# Altium integrated library Linear Technology PMIC-Switching Reg LTC1174-LTC3901.IntLib: 2647 symbols (part 96 of 310)
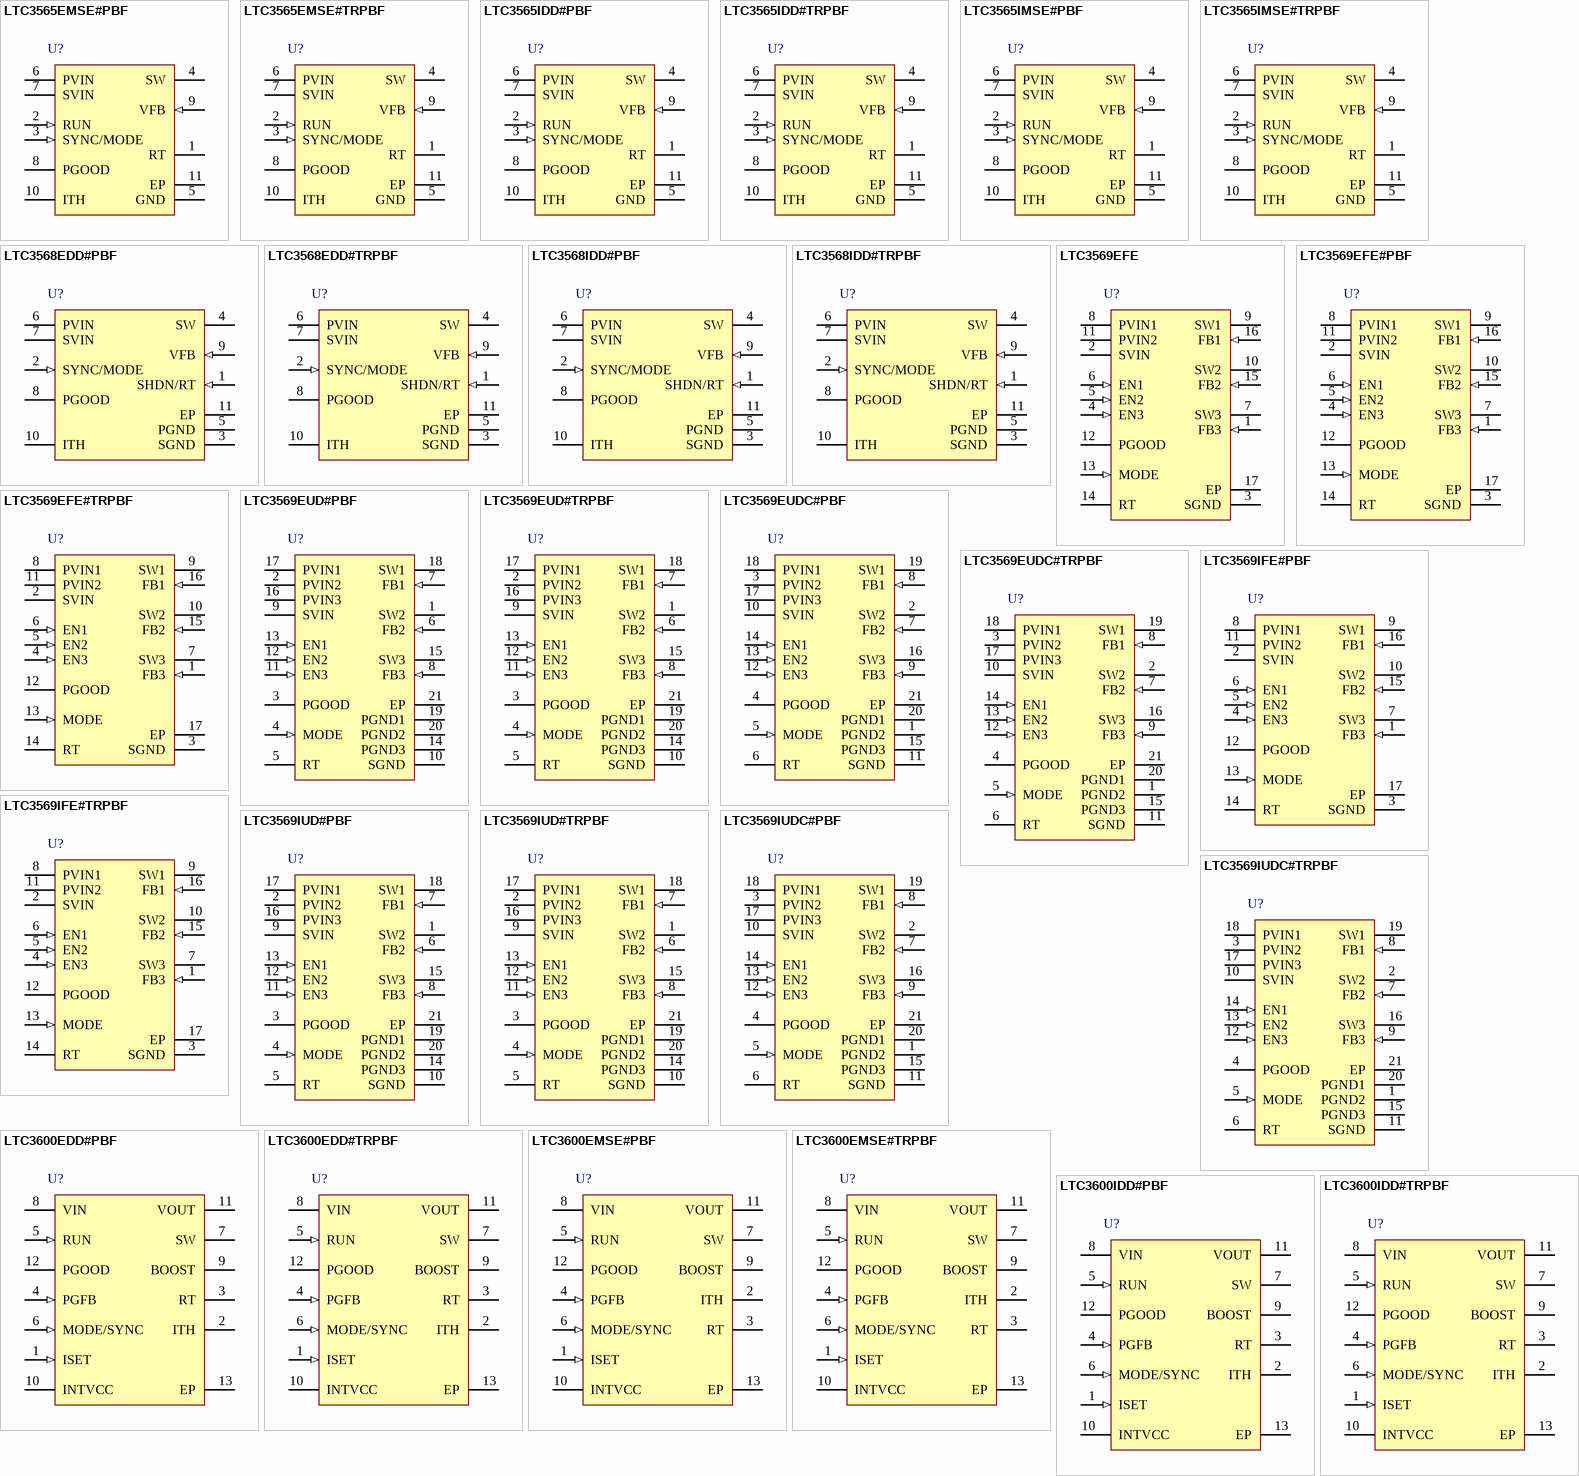
[diagram p269: symbols LTC3565EMSE#PBF to LTC3600IDD#TRPBF]

## LTC3565IDD#TRPBF
designator U?
1.25 A, 4 MHz, Synchronous Step-Down DC/DC Converter, 10-pin SON (DD-10), -40 to 125 degC, Pb-Free, Tape and Reel; Manufacturer: Linear Technology; PartNumber: LTC3565IDD#TRPBF; Number of Outputs: 1; PackageReference: DD-10; PackageDescription: 10-Pin Plastic DFN, Body 3 x 3 mm, Pitch 0.5 mm; Supplier 1: Digi-Key; Supplier Part Number 1: LTC3565IDD#TRPBF-ND; RoHS: TRUE; Code_JEDEC: MO-229
footprint LT-DD-10_V (SON, 10-Leads, Body 3x3mm, Pitch 0.5mm, Thermal Pad 2.38x1.65mm)
pins: 1 RT "Timing Resistor Pin. The oscillator frequency is programmed by connecting a resistor from this pin to ground.", 2 RUN (in) "Converter Enable Pin. Forcing this pin above 1.5V enables this part, while forcing it below 0.3V causes the device to shut down. In shutdown, the device draws <1uA supply current. This pin must be driven; do not float.", 3 SYNC/MODE (in) "Combination Mode Selection and Oscillator Synchronization Pin. This pin controls the operation of the device. When tied to SVIN or GND, Burst Mode operation or pulse skipping mode is selected, respectively. If this pin is (See Datasheet)", 4 SW (power) "The Switch Node Connection to the Inductor. This pin swings from PVIN to GND.", 5 GND (power) "Main Power Ground Pin. Connect to the (-) terminal of COUT, and (-) terminal of CIN. The exposed pad must be soldered to electrical ground on the PCB.", 6 PVIN (power) "Main Supply Pin. Must be closely decoupled to GND.", 7 SVIN (power) "The Signal Power Pin. All active circuitry is powered from this pin. Must be closely decoupled to GND. SVIN must be greater than or equal to PVIN.", 8 PGOOD (oc) "The Power Good Pin. This common drain logic output is pulled to GND when the output voltage is not within +/-7% of regulation.", 9 VFB (in) "Receives the feedback voltage from the external resistive divider across the output. Nominal voltage for this pin is 0.6V.", 10 ITH "Error Amplifier Compensation Point. The current comparator threshold increases with this control voltage. Nominal voltage range for this pin is 0.4V to 1.4V.", 11 EP (power) "Main Power Ground Pin. Connect to the (-) terminal of COUT, and (-) terminal of CIN. The exposed pad must be soldered to electrical ground on the PCB."

## LTC3565IMSE#PBF
designator U?
1.25 A, 4 MHz, Synchronous Step-Down DC/DC Converter, 10-pin SOP (MSE-10-EDP), -40 to 125 degC, Pb-Free; Manufacturer: Linear Technology; PartNumber: LTC3565IMSE#PBF; Number of Outputs: 1; PackageReference: MSE-10; PackageDescription: 10-Pin Plastic MSOP, Exposed Die Pad, Body 3 x 3 mm, Pitch 0.5 mm; Supplier 1: Digi-Key; Supplier Part Number 1: LTC3565IMSE#PBF-ND; RoHS: TRUE
footprint LT-MSE-10-EDP_N (SOP, 10-Leads, Body 3.1x3.1mm, Pitch 0.5mm, Thermal Pad 1.88x1.68mm, IPC Medium Density)
footprint LT-MSE-10-EDP_L (SOP, 10-Leads, Body 3.1x3.1mm, Pitch 0.5mm, Thermal Pad 1.88x1.68mm, IPC High Density)
footprint LT-MSE-10-EDP_M (SOP, 10-Leads, Body 3.1x3.1mm, Pitch 0.5mm, Thermal Pad 1.88x1.68mm, IPC Low Density)
pins: 1 RT "Timing Resistor Pin. The oscillator frequency is programmed by connecting a resistor from this pin to ground.", 2 RUN (in) "Converter Enable Pin. Forcing this pin above 1.5V enables this part, while forcing it below 0.3V causes the device to shut down. In shutdown, the device draws <1uA supply current. This pin must be driven; do not float.", 3 SYNC/MODE (in) "Combination Mode Selection and Oscillator Synchronization Pin. This pin controls the operation of the device. When tied to SVIN or GND, Burst Mode operation or pulse skipping mode is selected, respectively. If this pin is (See Datasheet)", 4 SW (power) "The Switch Node Connection to the Inductor. This pin swings from PVIN to GND.", 5 GND (power) "Main Power Ground Pin. Connect to the (-) terminal of COUT, and (-) terminal of CIN. The exposed pad must be soldered to electrical ground on the PCB.", 6 PVIN (power) "Main Supply Pin. Must be closely decoupled to GND.", 7 SVIN (power) "The Signal Power Pin. All active circuitry is powered from this pin. Must be closely decoupled to GND. SVIN must be greater than or equal to PVIN.", 8 PGOOD (oc) "The Power Good Pin. This common drain logic output is pulled to GND when the output voltage is not within +/-7% of regulation.", 9 VFB (in) "Receives the feedback voltage from the external resistive divider across the output. Nominal voltage for this pin is 0.6V.", 10 ITH "Error Amplifier Compensation Point. The current comparator threshold increases with this control voltage. Nominal voltage range for this pin is 0.4V to 1.4V.", 11 EP (power) "Main Power Ground Pin. Connect to the (-) terminal of COUT, and (-) terminal of CIN. The exposed pad must be soldered to electrical ground on the PCB."